# Altium footprint library PcbLib1.PcbLib: 2 footprints
Each footprint in its own frame and in the unit in brackets; x right, y up, seen from the top. Pads: shape width x height; smd on the part's side, far side on the other; paste and mask are expansions set on the pad; w line width, h text height; cw(c..) or ccw(c..) is an arc to the next point about the centre after c.
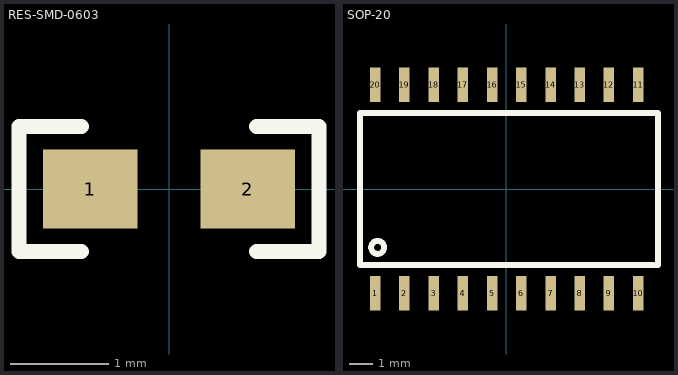
[diagram p0: the footprints below, top view; thin cyan lines are the x and y axes]

## RES-SMD-0603 [mm]
pads (2):
  rect 0.965x0.8 smd: 1(-0.8,0) 2(0.8,0)
Top Overlay:
  lines w0.15: -0.889,-0.635 -1.524,-0.635 -1.524,0.635 -0.889,0.635 ; 0.889,-0.635 1.524,-0.635 1.524,0.635 0.889,0.635

## SOP-20 [mm]
pads (20):
  rect 0.456x1.503 smd: 1(-5.69,-4.527) 2(-4.42,-4.527) 3(-3.15,-4.527) 4(-1.88,-4.527) 5(-0.61,-4.527) 6(0.66,-4.527) 7(1.93,-4.527) 8(3.2,-4.527) 9(4.47,-4.527) 10(5.74,-4.527) 11(5.74,4.527) 12(4.47,4.527) 13(3.2,4.527) 14(1.93,4.527) 15(0.66,4.527) 16(-0.61,4.527) 17(-1.88,4.527) 18(-3.15,4.527) 19(-4.42,4.527) 20(-5.69,4.527)
Top Overlay:
  circle w0.254: c-5.588,-2.54 r0.284
  lines w0.254: -6.35,-3.302 6.604,-3.302 6.604,3.302 -6.35,3.302 -6.35,-3.302